# Altium footprint library XAL7070-332MEC.PcbLib: 3 footprints
Each footprint in its own frame and in the unit in brackets; x right, y up, seen from the top. Pads: shape width x height; smd on the part's side, far side on the other; paste and mask are expansions set on the pad; w line width, h text height; cw(c..) or ccw(c..) is an arc to the next point about the centre after c.
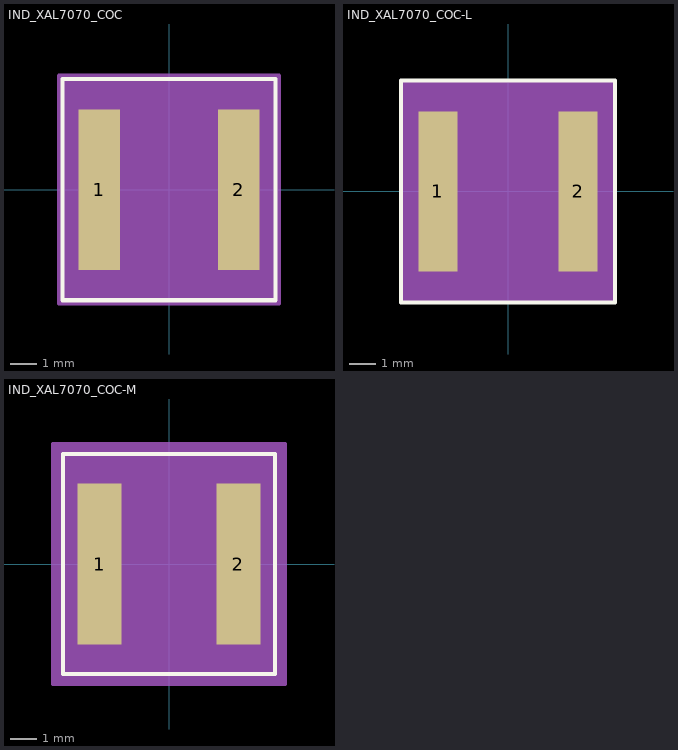
[diagram p0: the footprints below, top view; thin cyan lines are the x and y axes]

## IND_XAL7070_COC [mil]
pads (2):
  rect 61x236 smd paste+0 mask+0: 1(-102.5,0) 2(102.5,0)
Top Overlay:
  lines w6: -156.5,-162.5 156.5,-162.5 156.5,162.5 -156.5,162.5 -156.5,-162.5
  text ".Designator" at -137.5,-25 h50
Mechanical 13:
  circle w1: c-72,0 r3
  lines w1: -12,157.5 ccw(c0,157.5) 12,157.5 ; -151.5,-157.5 151.5,-157.5 151.5,157.5 -151.5,157.5 -151.5,-157.5
  text ".Designator" at -137.5,-25 h50
Mechanical 15:
  region: -161.5,-128 -161.5,128 -161.5,167.5 161.5,167.5 161.5,128 161.5,-128 161.5,-167.5 -161.5,-167.5
  lines w6: -161.5,-128 -161.5,128 ; -161.5,-128 -161.5,-128 ; -161.5,-128 -161.5,-167.5 161.5,-167.5 161.5,-128 ; -161.5,128 -161.5,128 ; -161.5,128 -161.5,167.5 161.5,167.5 161.5,128 ; 161.5,-128 161.5,128 ; 161.5,-128 161.5,-128 ; 161.5,128 161.5,128
3D body "IND_XAL7070_COC.step": height 276.1, standoff 0, extent -151.5,-157.48 151.5,157.48

## IND_XAL7070_COC-L [mil]
pads (2):
  rect 57.06x234.03 smd paste+0 mask+0: 1(-102.5,0) 2(102.5,0)
Top Overlay:
  lines w6: -156.5,-162.5 156.5,-162.5 156.5,162.5 -156.5,162.5 -156.5,-162.5
  text ".Designator" at -137.5,-25 h50
Mechanical 13:
  circle w1: c-73.97,0 r3
  lines w1: -12,157.5 ccw(c0,157.5) 12,157.5 ; -151.5,-157.5 151.5,-157.5 151.5,157.5 -151.5,157.5 -151.5,-157.5
  text ".Designator" at -137.5,-25 h50
Mechanical 15:
  region: -155.5,-121.02 -155.5,121.02 -155.5,161.5 155.5,161.5 155.5,121.02 155.5,-121.02 155.5,-161.5 -155.5,-161.5
  lines w6: -155.5,-121.02 -155.5,121.02 ; -155.5,-121.02 -155.5,-121.02 ; -155.5,-121.02 -155.5,-161.5 155.5,-161.5 155.5,-121.02 ; -155.5,121.02 -155.5,121.02 ; -155.5,121.02 -155.5,161.5 155.5,161.5 155.5,121.02 ; 155.5,-121.02 155.5,121.02 ; 155.5,-121.02 155.5,-121.02 ; 155.5,121.02 155.5,121.02
3D body "IND_XAL7070_COC.step": height 276.1, standoff 0, extent -151.5,-157.48 151.5,157.48

## IND_XAL7070_COC-M [mil]
pads (2):
  rect 64.94x237.97 smd paste+0 mask+0: 1(-102.5,0) 2(102.5,0)
Top Overlay:
  lines w6: -156.5,-162.5 156.5,-162.5 156.5,162.5 -156.5,162.5 -156.5,-162.5
  text ".Designator" at -137.5,-25 h50
Mechanical 13:
  circle w1: c-70.03,0 r3
  lines w1: -12,157.5 ccw(c0,157.5) 12,157.5 ; -151.5,-157.5 151.5,-157.5 151.5,157.5 -151.5,157.5 -151.5,-157.5
  text ".Designator" at -137.5,-25 h50
Mechanical 15:
  region: -171.5,-138.98 -171.5,138.98 -171.5,177.5 171.5,177.5 171.5,138.98 171.5,-138.98 171.5,-177.5 -171.5,-177.5
  lines w6: -171.5,-138.98 -171.5,138.98 ; -171.5,-138.98 -171.5,-138.98 ; -171.5,-138.98 -171.5,-177.5 171.5,-177.5 171.5,-138.98 ; -171.5,138.98 -171.5,138.98 ; -171.5,138.98 -171.5,177.5 171.5,177.5 171.5,138.98 ; 171.5,-138.98 171.5,138.98 ; 171.5,-138.98 171.5,-138.98 ; 171.5,138.98 171.5,138.98
3D body "IND_XAL7070_COC.step": height 276.1, standoff 0, extent -151.5,-157.48 151.5,157.48